# EAGLE library part ESP09 (library PaxInstruments-DigitalIC)
ESP8266 Wifi module 09
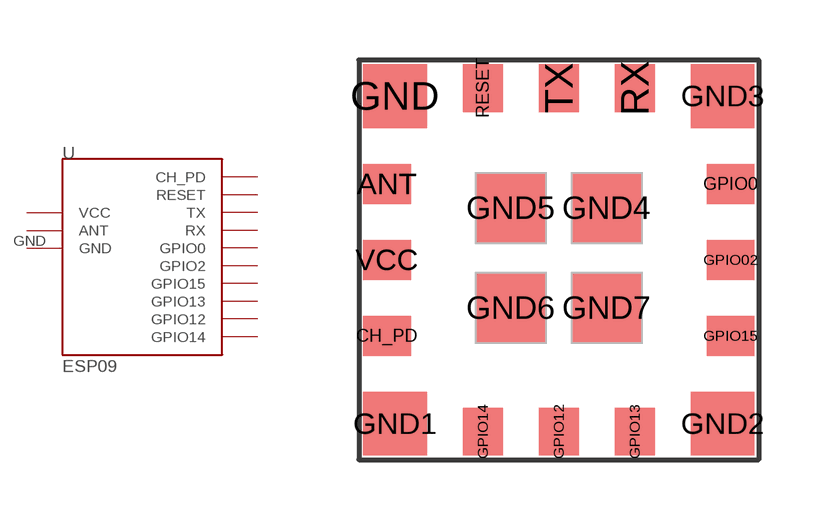
[diagram p7: symbol with the pads of ESP09; footprint ESP09]

Designator prefix -

## ESP09  [ESP09]
ANT  ANT
CH_PD  CH_PD
GND  GND
GND1  GND1
GND2  GND2
GND3  GND3
GND4  GND4
GND5  GND5
GND6  GND6
GND7  GND7
GPIO0  GPIO0
GPIO02  GPIO2
GPIO12  GPIO12
GPIO13  GPIO13
GPIO14  GPIO14
GPIO15  GPIO15
RESET  RESET
RX  RX
TX  TX
VCC  VCC

## Footprint ESP09 (pad centres in mm)
ESP8266 Module 09
smd 1.2 x 1: ANT -4.3,1.9; CH_PD -4.3,-1.9; GPIO0 4.3,1.9; GPIO02 4.3,0; GPIO15 4.3,-1.9; VCC -4.3,0
smd 1.6 x 1.6: GND -4.1,4.1; GND1 -4.1,-4.1; GND2 4.1,-4.1; GND3 4.1,4.1
smd 1.7 x 1.7: GND4 1.2,1.3; GND5 -1.2,1.3; GND6 -1.2,-1.2; GND7 1.2,-1.2
smd 1 x 1.2: GPIO12 0,-4.3; GPIO13 1.9,-4.3; GPIO14 -1.9,-4.3; RESET -1.9,4.3; RX 1.9,4.3; TX 0,4.3